# Altium schematic symbol library Discrete.SchLib: 1 symbol
Pins are listed as number, name and electrical type; pins without a type are passive.

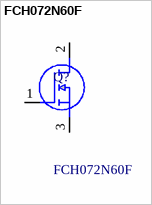
[diagram p0: symbol FCH072N60F]

## FCH072N60F
designator Q?
Typ. RDS(on) = 65 m; 650 V @ TJ= 150C; Low Effective Output Capacitance (Typ. Coss(eff.) = 441 pF); RoHS Compliant Compliant; Ultra Low Gate Charge (Typ. Qg= 165 nC); 100% Avalanche Tested; Manufacturer_Name: onsemi; Geometry.Height: 4.82mm; Manufacturer_Part_Number: FCH072N60F; Mouser Part Number: 512-FCH072N60F; Mouser Price/Stock: https://www.mouser.co.uk/ProductDetail/onsemi-Fairchild/FCH072N60F?qs=X3hl09QjZuNxSjzwEzctiQ%3D%3D; Arrow Part Number: FCH072N60F; Arrow Price/Stock: https://www.arrow.com/en/products/fch072n60f/on-semiconductor; Datasheet Link: https://www.onsemi.com/pub/Collateral/FCH072N60F-D.PDF
footprint TO-247
footprint TO-247 BENT
pins: 1 G, 2 D, 3 S